# EAGLE library part MC14071BCPG (library ON_Semiconductor_By_element14_Batch_1)
B-Suffix Series CMOS Gates
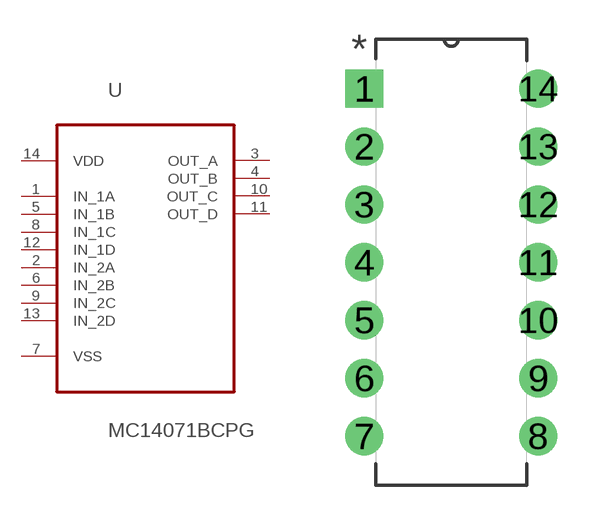
[diagram p258: symbol with the pads of DIP254P762X469-14; footprint DIP254P762X469-14]

Designator prefix U

## MC14071BCPG (MPN: MC14071BCPG; OC_FARNELL: 9665587; OC_NEWARK: 88H4715; PACKAGE: PDIP-14; SUPPLIER: On Semiconductor)  [DIP254P762X469-14]
1  IN_1A  in
2  IN_2A  in
3  OUT_A  out
4  OUT_B  out
5  IN_1B  in
6  IN_2B  in
7  VSS  pwr
8  IN_1C  in
9  IN_2C  in
10  OUT_C  out
11  OUT_D  out
12  IN_1D  in
13  IN_2D  in
14  VDD  pwr

## Footprint DIP254P762X469-14 (pad centres in mm)
drill 1.118 square: 1 -7.62,15.24
drill 1.118: 2 -7.62,12.7; 3 -7.62,10.16; 4 -7.62,7.62; 5 -7.62,5.08; 6 -7.62,2.54; 7 -7.62,0; 8 0,0; 9 0,2.54; 10 0,5.08; 11 0,7.62; 12 0,10.16; 13 0,12.7; 14 0,15.24